# Altium schematic symbol library SnapEDAsch.SchLib: 1 symbol
Pins are listed as number, name and electrical type; pins without a type are passive.

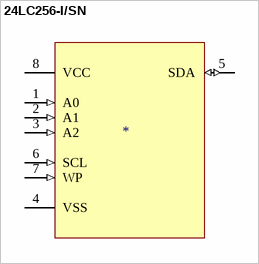
[diagram p0: symbol 24LC256-I/SN]

## 24LC256-I/SN
designator ?
EEPROM Memory IC 256Kb _32K x 8_ IÂ²C 400kHz 900ns 8-SOIC; MP: 24LC256-I/SN; MF: Microchip; Value: *; Package: SOIC-8 Microchip; SnapEDA_Link: https://www.snapeda.com/parts/24LC256-I/SN/Microchip/view-part/9771/?ref=snap; Price: None; Availability: Unavailable
footprint SOIC127P600X175-8N
pins: 1 A0 (in), 2 A1 (in), 3 A2 (in), 4 VSS, 5 SDA (io), 6 SCL (in), 7 WP (in), 8 VCC (power)